# Altium footprint library TSW-104-02-S-S.PcbLib: 1 footprints
Each footprint in its own frame and in the unit in brackets; x right, y up, seen from the top. Pads: shape width x height; smd on the part's side, far side on the other; paste and mask are expansions set on the pad; w line width, h text height; cw(c..) or ccw(c..) is an arc to the next point about the centre after c.
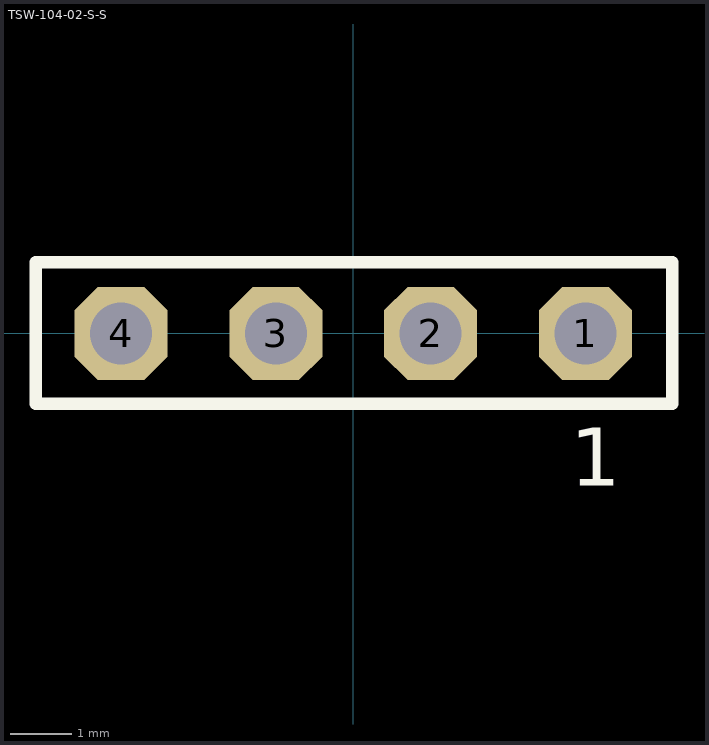
[diagram p0: the footprint, top view; thin cyan lines are the x and y axes]

## TSW-104-02-S-S [mil]
pads (4):
  oct 60x60 hole 40: 1(150,0) 2(50,0) 3(-50,0) 4(-150,0)
Top Overlay:
  lines w8: -205.08,-45.47 206,-45.47 206,46 -205.08,46 -205.08,-45.47
  text "1" at 140,-98.35 h37.4
Mechanical 16:
  rectangle: -163.78,-13.78 -136.22,14
  rectangle: -63.78,-13.78 -36.22,14
  rectangle: 37,-13.78 64,14
  rectangle: 137,-13.78 164,14